# EAGLE library part TC1320EOA (library aarons)
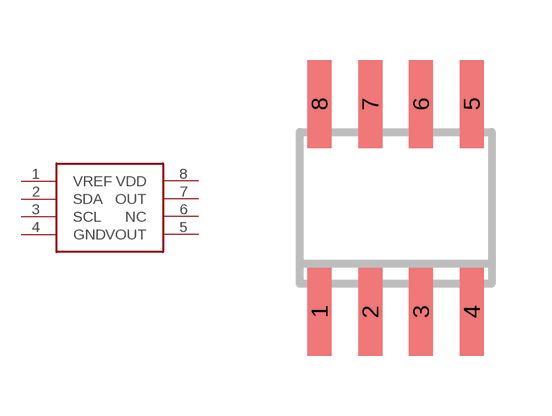
[diagram p3: symbol with the pads of SOIC8; footprint SOIC8]

Designator prefix U

## TC1320EOA  [SOIC8]
1  VREF
2  SDA
3  SCL
4  GND
5  VOUT
6  NC
7  OUT
8  VDD

## Footprint SOIC8 (pad centres in mm)
Small Outline IC
smd 0.6 x 2.2: 1 -1.905,-2.6; 2 -0.635,-2.6; 3 0.635,-2.6; 4 1.905,-2.6; 5 1.905,2.6; 6 0.635,2.6; 7 -0.635,2.6; 8 -1.905,2.6